# Altium footprint library MUI.PcbLib: 38 footprints (part 1 of 3)
Each footprint in its own frame and in the unit in brackets; x right, y up, seen from the top. Pads: shape width x height; smd on the part's side, far side on the other; paste and mask are expansions set on the pad; w line width, h text height; cw(c..) or ccw(c..) is an arc to the next point about the centre after c.
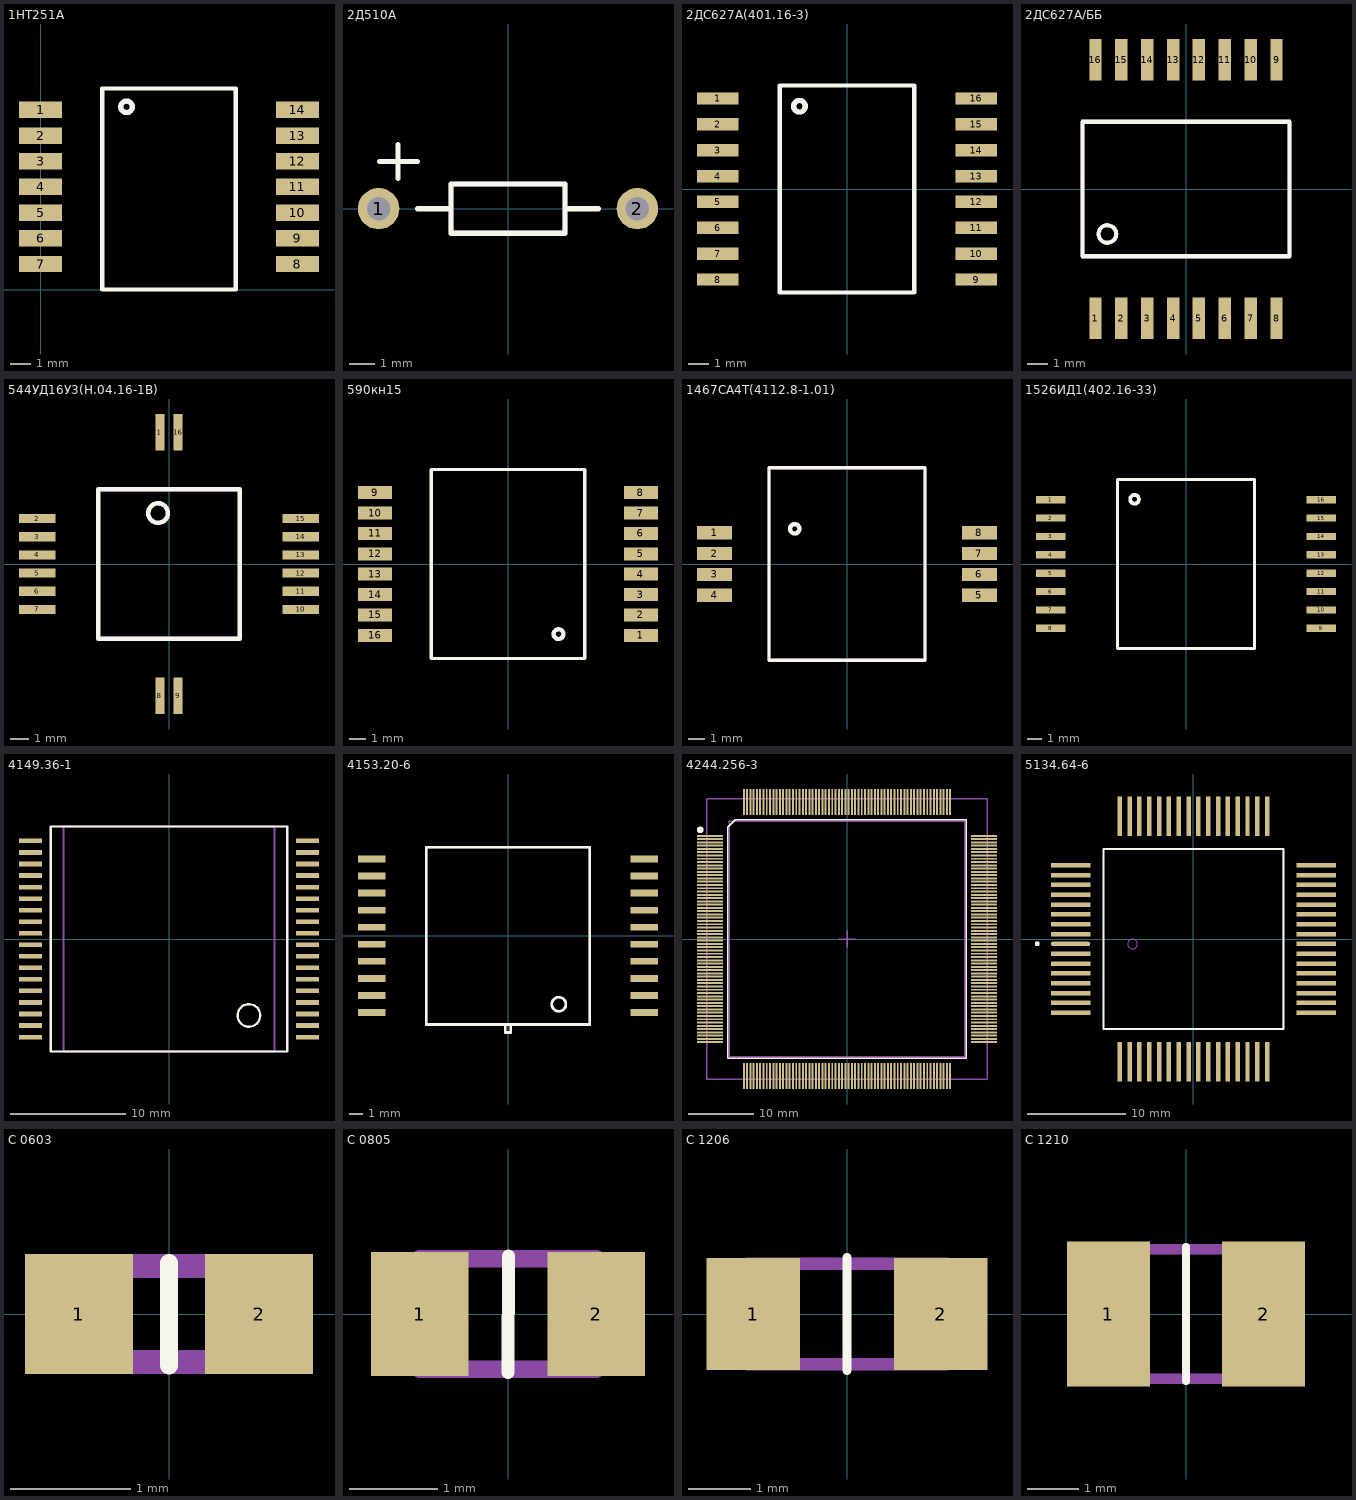
[diagram p0: the footprints below, top view; thin cyan lines are the x and y axes]

## 1HT251A [mm]
pads (14):
  rect 2.1x0.8 smd: 1(0,8.75) 2(0,7.5) 3(0,6.25) 4(0,5) 5(0,3.75) 6(0,2.5) 7(0,1.25) 8(12.5,1.25) 9(12.5,2.5) 10(12.5,3.75) 11(12.5,5) 12(12.5,6.25) 13(12.5,7.5) 14(12.5,8.75)
Top Overlay:
  circle w0.254: c4.184,8.9 r0.28
  lines w0.2: 3,0 9.5,0 9.5,9.8 3,9.8 3,0

## 2Д510А [mm]
pads (2):
  round 1.6 hole 0.9: 1(-5,0) 2(5,0)
Top Overlay:
  lines w0.2: -4.975,1.825 -3.5,1.825 ; -4.25,1.175 -4.25,2.475 ; -3.5,0 -2.2,0 ; 2.2,0 3.5,0 ; -2.2,-0.95 2.2,-0.95 2.2,0.95 -2.2,0.95 -2.2,-0.95
Mechanical 1:
  lines w0.2: -2.2,-0.95 2.2,-0.95 2.2,0.95 -2.2,0.95 -2.2,-0.95
3D body: height 1.6, standoff 0, extent -2.2,-0.8 2.2,0.8

## 2ДС627А(401.16-3) [mm]
pads (16):
  rect 2x0.6 smd: 1(-6.25,4.375) 2(-6.25,3.125) 3(-6.25,1.875) 4(-6.25,0.625) 5(-6.25,-0.625) 6(-6.25,-1.875) 7(-6.25,-3.125) 8(-6.25,-4.375) 9(6.25,-4.375) 10(6.25,-3.125) 11(6.25,-1.875) 12(6.25,-0.625) 13(6.25,0.625) 14(6.25,1.875) 15(6.25,3.125) 16(6.25,4.375)
Top Overlay:
  circle w0.254: c-2.3,4 r0.28
  lines w0.2: -3.25,-5 3.25,-5 3.25,5 -3.25,5 -3.25,-5

## 2ДС627А/ББ [mm]
pads (16):
  rect 0.6x2 smd: 1(-4.375,-6.25) 2(-3.125,-6.25) 3(-1.875,-6.25) 4(-0.625,-6.25) 5(0.625,-6.25) 6(1.875,-6.25) 7(3.125,-6.25) 8(4.375,-6.25) 9(4.375,6.25) 10(3.125,6.25) 11(1.875,6.25) 12(0.625,6.25) 13(-0.625,6.25) 14(-1.875,6.25) 15(-3.125,6.25) 16(-4.375,6.25)
Top Overlay:
  circle w0.2: c-3.8,-2.175 r0.426
  lines w0.2: -5,-3.25 5,-3.25 5,3.25 -5,3.25 -5,-3.25
Mechanical 1:
  lines w0.2: -5,3.25 -5,-3.25 5,-3.25 5,2.975 5,3.25 ; -5,3.25 -5,3.25 ; -5,3.25 5,3.25 ; 5,3.25 5,3.25
3D body: height 2.5, standoff 0, extent -4.999,-3.249 4.999,3.249

## 544УД16У3(Н.04.16-1В) [mm]
pads (16):
  rect 0.5x2 smd: 1(-0.5,7.25) 8(-0.5,-7.25) 9(0.5,-7.25) 16(0.5,7.25)
  rect 2x0.5 smd: 2(-7.25,2.5) 3(-7.25,1.5) 4(-7.25,0.5) 5(-7.25,-0.5) 6(-7.25,-1.5) 7(-7.25,-2.5) 10(7.25,-2.5) 11(7.25,-1.5) 12(7.25,-0.5) 13(7.25,0.5) 14(7.25,1.5) 15(7.25,2.5)
Top Overlay:
  lines w0.25: -3.9,-4.1 -3.9,4.1 3.9,4.1 3.9,-4.1 -3.9,-4.1
  lines w0.254: -0.1,2.6 cw(c-0.6,2.8) -0.072,2.694
Mechanical 1:
  lines w0.2: -3.9,-4.1 -3.9,4.1 3.9,4.1 3.9,-4.1 -3.9,-4.1
3D body: height 3, standoff 0, extent -3.899,-4.099 3.899,4.099

## 590кн15 [mm]
pads (16):
  rect 2.1x0.8 smd: 1(8.15,-4.375) 2(8.15,-3.125) 3(8.15,-1.875) 4(8.15,-0.625) 5(8.15,0.625) 6(8.15,1.875) 7(8.15,3.125) 8(8.15,4.375) 9(-8.15,4.375) 10(-8.15,3.125) 11(-8.15,1.875) 12(-8.15,0.625) 13(-8.15,-0.625) 14(-8.15,-1.875) 15(-8.15,-3.125) 16(-8.15,-4.375)
Top Overlay:
  circle w0.254: c3.1,-4.3 r0.3
  lines w0.2: -4.7,-5.8 -4.7,5.8 4.7,5.8 4.7,-5.8 -4.7,-5.8

## 1467CA4T(4112.8-1.01) [mm]
pads (8):
  rect 2.1x0.8 smd: 1(-7.9,1.875) 2(-7.9,0.625) 3(-7.9,-0.625) 4(-7.9,-1.875) 5(7.9,-1.875) 6(7.9,-0.625) 7(7.9,0.625) 8(7.9,1.875)
Top Overlay:
  circle w0.254: c-3.116,2.1 r0.28
  lines w0.2: -4.65,-5.75 -4.65,5.75 4.65,5.75 4.65,-5.75 -4.65,-5.75
Mechanical 1:
  lines w0.2: -4.65,-5.75 4.65,-5.75 4.65,5.75 -4.65,5.75 -4.65,-5.75
3D body: height 2.5, standoff 0, extent -4.649,-5.749 4.649,5.749

## 1526ИД1(402.16-33) [mm]
pads (16):
  rect 2x0.5 smd: 1(-9.2,4.375) 2(-9.2,3.125) 3(-9.2,1.875) 4(-9.2,0.625) 5(-9.2,-0.625) 6(-9.2,-1.875) 7(-9.2,-3.125) 8(-9.2,-4.375) 9(9.2,-4.375) 10(9.2,-3.125) 11(9.2,-1.875) 12(9.2,-0.625) 13(9.2,0.625) 14(9.2,1.875) 15(9.2,3.125) 16(9.2,4.375)
Top Overlay:
  circle w0.254: c-3.5,4.4 r0.3
  lines w0.2: -4.65,-5.75 -4.65,5.75 4.65,5.75 4.65,-5.75 -4.65,-5.75
Mechanical 1:
  lines w0.2: -4.65,-5.75 -4.65,5.75 4.65,5.75 4.65,-5.75 -4.65,-5.75
3D body: height 2.45, standoff 0, extent -4.75,-5.85 4.75,5.85

## 4149.36-1 [mm]
pads (36):
  rect 2x0.4 smd: 1(12,-8.5) 2(12,-7.5) 3(12,-6.5) 4(12,-5.5) 5(12,-4.5) 6(12,-3.5) 7(12,-2.5) 8(12,-1.5) 9(12,-0.5) 10(12,0.5) 11(12,1.5) 12(12,2.5) 13(12,3.5) 14(12,4.5) 15(12,5.5) 16(12,6.5) 17(12,7.5) 18(12,8.5) 19(-12,8.5) 20(-12,7.5) 21(-12,6.5) 22(-12,5.5) 23(-12,4.5) 24(-12,3.5) 25(-12,2.5) 26(-12,1.5) 27(-12,0.5) 28(-12,-0.5) 29(-12,-1.5) 30(-12,-2.5) 31(-12,-3.5) 32(-12,-4.5) 33(-12,-5.5) 34(-12,-6.5) 35(-12,-7.5) 36(-12,-8.5)
Top Overlay:
  circle w0.2: c6.925,-6.625 r0.978
  lines w0.2: -10.25,-9.75 -10.25,9.75 10.25,9.75 10.25,-9.75 -10.25,-9.75
Mechanical 1:
  lines w0.2: -9.15,-9.75 9.15,-9.75 9.15,9.75 -9.15,9.75 -9.15,-9.75
3D body: height 3.3, standoff 0, extent -9.25,-9.85 9.25,9.85

## 4153.20-6 [mm]
pads (20):
  rect 2x0.5 smd: 1(10,-5.625) 2(10,-4.375) 3(10,-3.125) 4(10,-1.875) 5(10,-0.625) 6(10,0.625) 7(10,1.875) 8(10,3.125) 9(10,4.375) 10(10,5.625) 11(-10,5.625) 12(-10,4.375) 13(-10,3.125) 14(-10,1.875) 15(-10,0.625) 16(-10,-0.625) 17(-10,-1.875) 18(-10,-3.125) 19(-10,-4.375) 20(-10,-5.625)
Top Overlay:
  circle w0.2: c3.725,-5.025 r0.515
  lines w0.2: -0.2,-6.5 -0.2,-7.1 0.2,-7.1 0.2,-6.5 ; -6,-6.5 6,-6.5 6,6.5 -6,6.5 -6,-6.5
Mechanical 1:
  lines w0.2: -6,-6.5 6,-6.5 6,6.5 -6,6.5 -6,-6.5
3D body: height 3.03, standoff 0, extent -5.999,-6.499 5.999,6.499

## 4244.256-3 [mm] "44ж"
height 3.3
pads (256):
  rect 4x0.3 smd: 1(-20.9,15.75) 2(-20.9,15.25) 3(-20.9,14.75) 4(-20.9,14.25) 5(-20.9,13.75) 6(-20.9,13.25) 7(-20.9,12.75) 8(-20.9,12.25) 9(-20.9,11.75) 10(-20.9,11.25) 11(-20.9,10.75) 12(-20.9,10.25) 13(-20.9,9.75) 14(-20.9,9.25) 15(-20.9,8.75) 16(-20.9,8.25) 17(-20.9,7.75) 18(-20.9,7.25) 19(-20.9,6.75) 20(-20.9,6.25) 21(-20.9,5.75) 22(-20.9,5.25) 23(-20.9,4.75) 24(-20.9,4.25) 25(-20.9,3.75) 26(-20.9,3.25) 27(-20.9,2.75) 28(-20.9,2.25) 29(-20.9,1.75) 30(-20.9,1.25) 31(-20.9,0.75) 32(-20.9,0.25) 33(-20.9,-0.25) 34(-20.9,-0.75) 35(-20.9,-1.25) 36(-20.9,-1.75) 37(-20.9,-2.25) 38(-20.9,-2.75) 39(-20.9,-3.25) 40(-20.9,-3.75) 41(-20.9,-4.25) 42(-20.9,-4.75) 43(-20.9,-5.25) 44(-20.9,-5.75) 45(-20.9,-6.25) 46(-20.9,-6.75) 47(-20.9,-7.25) 48(-20.9,-7.75) 49(-20.9,-8.25) 50(-20.9,-8.75) 51(-20.9,-9.25) 52(-20.9,-9.75) 53(-20.9,-10.25) 54(-20.9,-10.75) 55(-20.9,-11.25) 56(-20.9,-11.75) 57(-20.9,-12.25) 58(-20.9,-12.75) 59(-20.9,-13.25) 60(-20.9,-13.75) 61(-20.9,-14.25) 62(-20.9,-14.75) 63(-20.9,-15.25) 64(-20.9,-15.75) 129(20.9,-15.75) 130(20.9,-15.25) 131(20.9,-14.75) 132(20.9,-14.25) 133(20.9,-13.75) 134(20.9,-13.25) 135(20.9,-12.75) 136(20.9,-12.25) 137(20.9,-11.75) 138(20.9,-11.25) 139(20.9,-10.75) 140(20.9,-10.25) 141(20.9,-9.75) 142(20.9,-9.25) 143(20.9,-8.75) 144(20.9,-8.25) 145(20.9,-7.75) 146(20.9,-7.25) 147(20.9,-6.75) 148(20.9,-6.25) 149(20.9,-5.75) 150(20.9,-5.25) 151(20.9,-4.75) 152(20.9,-4.25) 153(20.9,-3.75) 154(20.9,-3.25) 155(20.9,-2.75) 156(20.9,-2.25) 157(20.9,-1.75) 158(20.9,-1.25) 159(20.9,-0.75) 160(20.9,-0.25) 161(20.9,0.25) 162(20.9,0.75) 163(20.9,1.25) 164(20.9,1.75) 165(20.9,2.25) 166(20.9,2.75) 167(20.9,3.25) 168(20.9,3.75) 169(20.9,4.25) 170(20.9,4.75) 171(20.9,5.25) 172(20.9,5.75) 173(20.9,6.25) 174(20.9,6.75) 175(20.9,7.25) 176(20.9,7.75) 177(20.9,8.25) 178(20.9,8.75) 179(20.9,9.25) 180(20.9,9.75) 181(20.9,10.25) 182(20.9,10.75) 183(20.9,11.25) 184(20.9,11.75) 185(20.9,12.25) 186(20.9,12.75) 187(20.9,13.25) 188(20.9,13.75) 189(20.9,14.25) 190(20.9,14.75) 191(20.9,15.25) 192(20.9,15.75)
  rect 0.3x4 smd: 65(-15.75,-20.9) 66(-15.25,-20.9) 67(-14.75,-20.9) 68(-14.25,-20.9) 69(-13.75,-20.9) 70(-13.25,-20.9) 71(-12.75,-20.9) 72(-12.25,-20.9) 73(-11.75,-20.9) 74(-11.25,-20.9) 75(-10.75,-20.9) 76(-10.25,-20.9) 77(-9.75,-20.9) 78(-9.25,-20.9) 79(-8.75,-20.9) 80(-8.25,-20.9) 81(-7.75,-20.9) 82(-7.25,-20.9) 83(-6.75,-20.9) 84(-6.25,-20.9) 85(-5.75,-20.9) 86(-5.25,-20.9) 87(-4.75,-20.9) 88(-4.25,-20.9) 89(-3.75,-20.9) 90(-3.25,-20.9) 91(-2.75,-20.9) 92(-2.25,-20.9) 93(-1.75,-20.9) 94(-1.25,-20.9) 95(-0.75,-20.9) 96(-0.25,-20.9) 97(0.25,-20.9) 98(0.75,-20.9) 99(1.25,-20.9) 100(1.75,-20.9) 101(2.25,-20.9) 102(2.75,-20.9) 103(3.25,-20.9) 104(3.75,-20.9) 105(4.25,-20.9) 106(4.75,-20.9) 107(5.25,-20.9) 108(5.75,-20.9) 109(6.25,-20.9) 110(6.75,-20.9) 111(7.25,-20.9) 112(7.75,-20.9) 113(8.25,-20.9) 114(8.75,-20.9) 115(9.25,-20.9) 116(9.75,-20.9) 117(10.25,-20.9) 118(10.75,-20.9) 119(11.25,-20.9) 120(11.75,-20.9) 121(12.25,-20.9) 122(12.75,-20.9) 123(13.25,-20.9) 124(13.75,-20.9) 125(14.25,-20.9) 126(14.75,-20.9) 127(15.25,-20.9) 128(15.75,-20.9) 193(15.75,20.9) 194(15.25,20.9) 195(14.75,20.9) 196(14.25,20.9) 197(13.75,20.9) 198(13.25,20.9) 199(12.75,20.9) 200(12.25,20.9) 201(11.75,20.9) 202(11.25,20.9) 203(10.75,20.9) 204(10.25,20.9) 205(9.75,20.9) 206(9.25,20.9) 207(8.75,20.9) 208(8.25,20.9) 209(7.75,20.9) 210(7.25,20.9) 211(6.75,20.9) 212(6.25,20.9) 213(5.75,20.9) 214(5.25,20.9) 215(4.75,20.9) 216(4.25,20.9) 217(3.75,20.9) 218(3.25,20.9) 219(2.75,20.9) 220(2.25,20.9) 221(1.75,20.9) 222(1.25,20.9) 223(0.75,20.9) 224(0.25,20.9) 225(-0.25,20.9) 226(-0.75,20.9) 227(-1.25,20.9) 228(-1.75,20.9) 229(-2.25,20.9) 230(-2.75,20.9) 231(-3.25,20.9) 232(-3.75,20.9) 233(-4.25,20.9) 234(-4.75,20.9) 235(-5.25,20.9) 236(-5.75,20.9) 237(-6.25,20.9) 238(-6.75,20.9) 239(-7.25,20.9) 240(-7.75,20.9) 241(-8.25,20.9) 242(-8.75,20.9) 243(-9.25,20.9) 244(-9.75,20.9) 245(-10.25,20.9) 246(-10.75,20.9) 247(-11.25,20.9) 248(-11.75,20.9) 249(-12.25,20.9) 250(-12.75,20.9) 251(-13.25,20.9) 252(-13.75,20.9) 253(-14.25,20.9) 254(-14.75,20.9) 255(-15.25,20.9) 256(-15.75,20.9)
Top Overlay:
  circle w0.6: c-22.4,16.65 r0.2
  lines w0.2: -18.2,-18.2 -18.2,17.05 -17.05,18.2 18.2,18.2 18.2,-18.2 -18.2,-18.2
Mechanical 13:
  lines w0.2: -21.4,-21.4 21.4,-21.4 21.4,21.4 -21.4,21.4 -21.4,-21.4
Mechanical 15:
  lines w0.2: -1.27,0 1.27,0 ; 0,-1.27 0,1.27 ; -18,-18 -18,18 18,18 18,-18 -18,-18
3D body "4244.256-3.STEP": height 3.45, standoff -0.01, extent -21.401,-21.401 21.401,21.401

## 5134.64-6 [mm]
height 3.4
pads (64):
  oval 4x0.45 smd: 1(-12.5,-0.5)
  rect 4x0.45 smd: 2(-12.5,-1.5) 3(-12.5,-2.5) 4(-12.5,-3.5) 5(-12.5,-4.5) 6(-12.5,-5.5) 7(-12.5,-6.5) 8(-12.5,-7.5) 25(12.5,-7.5) 26(12.5,-6.5) 27(12.5,-5.5) 28(12.5,-4.5) 29(12.5,-3.5) 30(12.5,-2.5) 31(12.5,-1.5) 32(12.5,-0.5) 33(12.5,0.5) 34(12.5,1.5) 35(12.5,2.5) 36(12.5,3.5) 37(12.5,4.5) 38(12.5,5.5) 39(12.5,6.5) 40(12.5,7.5) 57(-12.5,7.5) 58(-12.5,6.5) 59(-12.5,5.5) 60(-12.5,4.5) 61(-12.5,3.5) 62(-12.5,2.5) 63(-12.5,1.5) 64(-12.5,0.5)
  rect 0.45x4 smd: 9(-7.5,-12.5) 10(-6.5,-12.5) 11(-5.5,-12.5) 12(-4.5,-12.5) 13(-3.5,-12.5) 15(-1.5,-12.5) 16(-0.5,-12.5) 17(0.5,-12.5) 18(1.5,-12.5) 19(2.5,-12.5) 20(3.5,-12.5) 21(4.5,-12.5) 22(5.5,-12.5) 23(6.5,-12.5) 24(7.5,-12.5) 41(7.5,12.5) 42(6.5,12.5) 43(5.5,12.5) 44(4.5,12.5) 45(3.5,12.5) 46(2.5,12.5) 47(1.5,12.5) 48(0.5,12.5) 49(-0.5,12.5) 50(-1.5,12.5) 51(-2.5,12.5) 52(-3.5,12.5) 53(-4.5,12.5) 54(-5.5,12.5) 55(-6.5,12.5) 56(-7.5,12.5)
  rect 0.45x4 smd paste+0: 14(-2.5,-12.5)
Top Overlay:
  circle w0.25: c-15.895,-0.485 r0.125
  lines w0.2: -9.15,-9.15 -9.15,9.15 9.15,9.15 9.15,-9.15 -9.15,-9.15
Mechanical 1:
  circle w0.1: c-6.2,-0.5 r0.5
  lines w0.1: -9.15,-9.15 -9.15,9.15 9.15,9.15 9.15,-9.15 -9.15,-9.15
3D body: height 3.4, standoff 0.1, extent -9.15,-9.15 9.15,9.15

## C 0603 [mm]
pads (2):
  rect 0.9x1 smd: 1(-0.75,0) 2(0.75,0)
Top Overlay:
  lines w0.15: 0,-0.43 0,0.425
Mechanical 1:
  lines w0.2: -0.8,-0.4 -0.8,0.4 0.8,0.4 0.8,-0.4 -0.8,-0.4
3D body: height 0.8, standoff 0, extent -0.9,-0.5 0.9,0.5

## C 0805 [mm]
pads (2):
  rect 1.1x1.4 smd: 1(-1,0) 2(1,0)
Top Overlay:
  lines w0.15: 0,-0.66 0.005,0.655
Mechanical 1:
  lines w0.2: -1,-0.625 -1,0.625 1,0.625 1,-0.625 -1,-0.625
3D body: height 1, standoff 0, extent -1.1,-0.725 1.1,0.725

## C 1206 [mm]
pads (2):
  rect 1.5x1.8 smd: 1(-1.5,0) 2(1.5,0)
Top Overlay:
  lines w0.15: 0,-0.9 0,0.9
Mechanical 1:
  lines w0.2: -1.6,-0.8 1.6,-0.8 1.6,0.8 -1.6,0.8 -1.6,-0.8
3D body: height 1.6, standoff 0, extent -1.7,-0.9 1.7,0.9

## C 1210 [mm]
pads (2):
  rect 1.6x2.8 smd: 1(-1.5,0) 2(1.5,0)
Top Overlay:
  lines w0.15: 0,-1.3 0,1.3
Mechanical 1:
  lines w0.2: -1.6,-1.25 1.6,-1.25 1.6,1.25 -1.6,1.25 -1.6,-1.25
3D body: height 1.75, standoff 0, extent -1.7,-1.35 1.7,1.35